# Altium schematic symbol library SamacSys.SchLib: 4 symbols
Pins are listed as number, name and electrical type; pins without a type are passive.

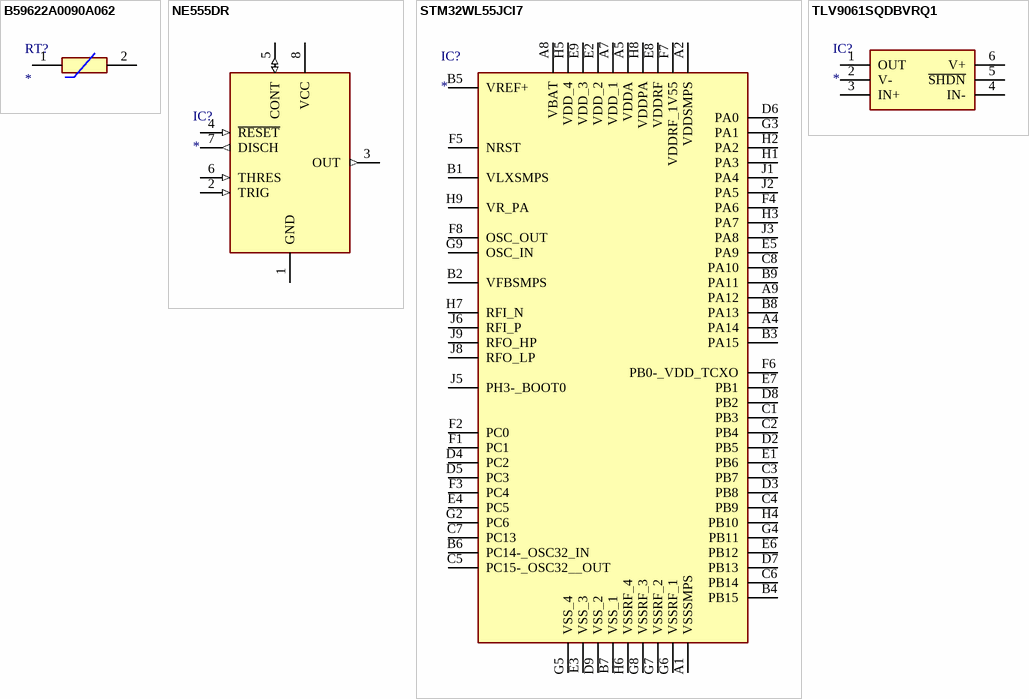
[diagram p0: symbols B59622A0090A062 to TLV9061SQDBVRQ1]

## B59622A0090A062
designator RT?
Thermistor; Manufacturer_Name: TDK; Manufacturer_Part_Number: B59622A0090A062; Description: PTC Thermistors for Overcurrent Protection; Datasheet Link: https://product.tdk.com/system/files/dam/doc/product/protection/current/ptc-thermistor/data_sheet/55/db/ptc/ptc_oc_smd_0402_0603_1210_24v_230v.pdf; Height: 0.9mm; Mouser Part Number: 871-B59622A0090A062; Mouser Price/Stock: https://www.mouser.co.uk/ProductDetail/EPCOS-TDK/B59622A0090A062?qs=%2FsLciWRBLmAgRIrCl1cNTg%3D%3D; Arrow Part Number: B59622A0090A062; Arrow Price/Stock: https://www.arrow.com/en/products/b59622a0090a062/epcos-tdk
footprint B59622A0090A062
pins: 1, 2

## NE555DR
designator IC?
Integrated Circuit; Manufacturer_Name: Texas Instruments; Manufacturer_Part_Number: NE555DR; Datasheet Link: http://www.ti.com/lit/ds/symlink/ne555.pdf; Height: 1.75mm; Mouser Part Number: 595-NE555DR; Mouser Price/Stock: https://www.mouser.com/Search/Refine.aspx?Keyword=595-NE555DR; RS Part Number: 1218414; RS Price/Stock: http://uk.rs-online.com/web/p/products/1218414
footprint SOIC127P600X175-8N
pins: 1 GND (power), 2 TRIG (in), 3 OUT (out), 4 ~{RESET} (in), 5 CONT (io), 6 THRES (in), 7 DISCH (out), 8 VCC (power)

## STM32WL55JCI7
designator IC?
Integrated Circuit; Manufacturer_Name: STMicroelectronics; Manufacturer_Part_Number: STM32WL55JCI7; Datasheet Link: https://www.mouser.com/datasheet/2/389/stm32wl55jc-1947317.pdf; Height: 0.6mm; Mouser Part Number: 511-STM32WL55JCI7; Mouser Price/Stock: https://www.mouser.co.uk/ProductDetail/STMicroelectronics/STM32WL55JCI7?qs=DPoM0jnrROUaxxsTXkqn0g%3D%3D; Arrow Part Number: STM32WL55JCI7; Arrow Price/Stock: https://www.arrow.com/en/products/stm32wl55jci7/stmicroelectronics?utm_currency=USD&region=nac
footprint BGA73C50P9X9_500X500X60
pins: A1 VSSSMPS, A2 VDDSMPS, A4 PA14, A5 VDDA, A7 VDD_1, A8 VBAT, A9 PA12, B1 VLXSMPS, B2 VFBSMPS, B3 PA15, B4 PB15, B5 VREF+, B6 PC14-_OSC32_IN, B7 VSS_1, B8 PA13, B9 PA11, C1 PB3, C2 PB4, C3 PB7, C4 PB9, C5 PC15-_OSC32__OUT, C6 PB14, C7 PC13, C8 PA10, D2 PB5, D3 PB8, D4 PC2, D5 PC3, D6 PA0, D7 PB13, D8 PB2, D9 VSS_2, E1 PB6, E2 VDD_2, E3 VSS_3, E4 PC5, E5 PA9, E6 PB12, E7 PB1, E8 VDDRF, E9 VDD_3, F1 PC1, F2 PC0, F3 PC4, F4 PA6, F5 NRST, F6 PB0-_VDD_TCXO, F7 VDDRF_1V55, F8 OSC_OUT, G2 PC6, G3 PA1, G4 PB11, G5 VSS_4, G6 VSSRF_1, G7 VSSRF_2, G8 VSSRF_3, G9 OSC_IN, H1 PA3, H2 PA2, H3 PA7, H4 PB10, H5 VDD_4, H6 VSSRF_4, H7 RFI_N, H8 VDDPA, H9 VR_PA, J1 PA4, J2 PA5, J3 PA8, J5 PH3-_BOOT0, J6 RFI_P, J8 RFO_LP, J9 RFO_HP

## TLV9061SQDBVRQ1
designator IC?
Integrated Circuit; Manufacturer_Name: Texas Instruments; Manufacturer_Part_Number: TLV9061SQDBVRQ1; Datasheet Link: https://www.ti.com/lit/gpn/tlv9061-q1; Height: 1.45mm; Mouser Part Number: 595-TLV9061SQDBVRQ1; Mouser Price/Stock: https://www.mouser.co.uk/ProductDetail/Texas-Instruments/TLV9061SQDBVRQ1?qs=DRkmTr78QASJ%252B5bCrdR4jA%3D%3D; Arrow Part Number: TLV9061SQDBVRQ1; Arrow Price/Stock: null?region=nac
footprint SOT95P280X145-6N
pins: 1 OUT, 2 V-, 3 IN+, 4 IN-, 5 ~{SHDN}, 6 V+